# Altium schematic symbol library IMU_MPU6050.SchLib: 1 symbol
Pins are listed as number, name and electrical type; pins without a type are passive.

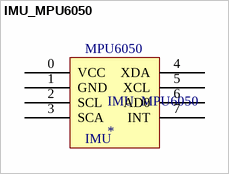
[diagram p0: symbol IMU_MPU6050]

## IMU_MPU6050
designator IMU_MPU6050
footprint MPU6050
pins: 0 VCC, 1 GND, 2 SCL, 3 SCA, 4 XDA, 5 XCL, 6 AD0, 7 INT
text: MPU6050; IMU